# EAGLE library part MAX2671 (library Maxim Integrated)
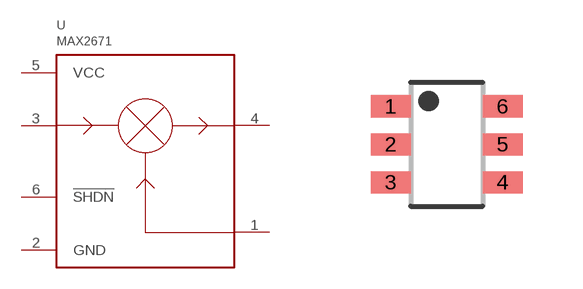
[diagram p3: symbol with the pads of SOT23-6; footprint SOT23-6]

Designator prefix U

## MAX2671  [SOT23-6]
1  LO
2  GND
3  IFIN
4  RFOUT
5  VCC
6  !SHDN

## Footprint SOT23-6 (pad centres in mm)
smd 1 x 0.55: 1 -1.4,0.95; 2 -1.4,0; 3 -1.4,-0.95; 4 1.4,-0.95; 5 1.4,0; 6 1.4,0.95